# Altium schematic symbol library TRANS-001.SchLib: 1 symbol
Pins are listed as number, name and electrical type; pins without a type are passive.

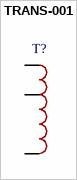
[diagram p0: symbol TRANS-001]

## TRANS-001
designator T?
pins: 1, 2, 3